# EAGLE library part HP5082_ (library display-hp)
LED DISPLAY + - 1/2 character dot matrix, decimal point right
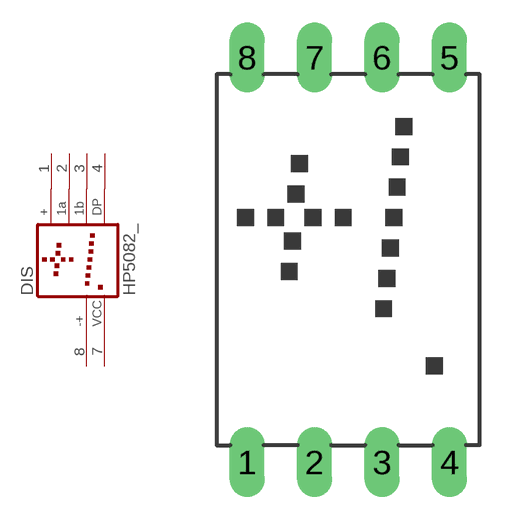
[diagram p37: symbol with the pads of HP5082_; footprint HP5082_]

Designator prefix DIS

## HP5082_ (OC_FARNELL: unknown; OC_NEWARK: unknown)  [HP5082_]
1  +  pas
2  1A  pas
3  1B  pas
4  DP  pas
7  VCC  pwr
8  -+  pas

## Footprint HP5082_ (pad centres in mm)
LED DISPLAY 8-mm + - 1/2 character dot matrix, decimal point right
drill 0.813 long: 1 -3.81,-7.62; 2 -1.27,-7.62; 3 1.27,-7.62; 4 3.81,-7.62; 5 3.81,7.62; 6 1.27,7.62; 7 -1.27,7.62; 8 -3.81,7.62